# Altium footprint library Symbols.PcbLib: 12 footprints
Each footprint in its own frame and in the unit in brackets; x right, y up, seen from the top. Pads: shape width x height; smd on the part's side, far side on the other; paste and mask are expansions set on the pad; w line width, h text height; cw(c..) or ccw(c..) is an arc to the next point about the centre after c.
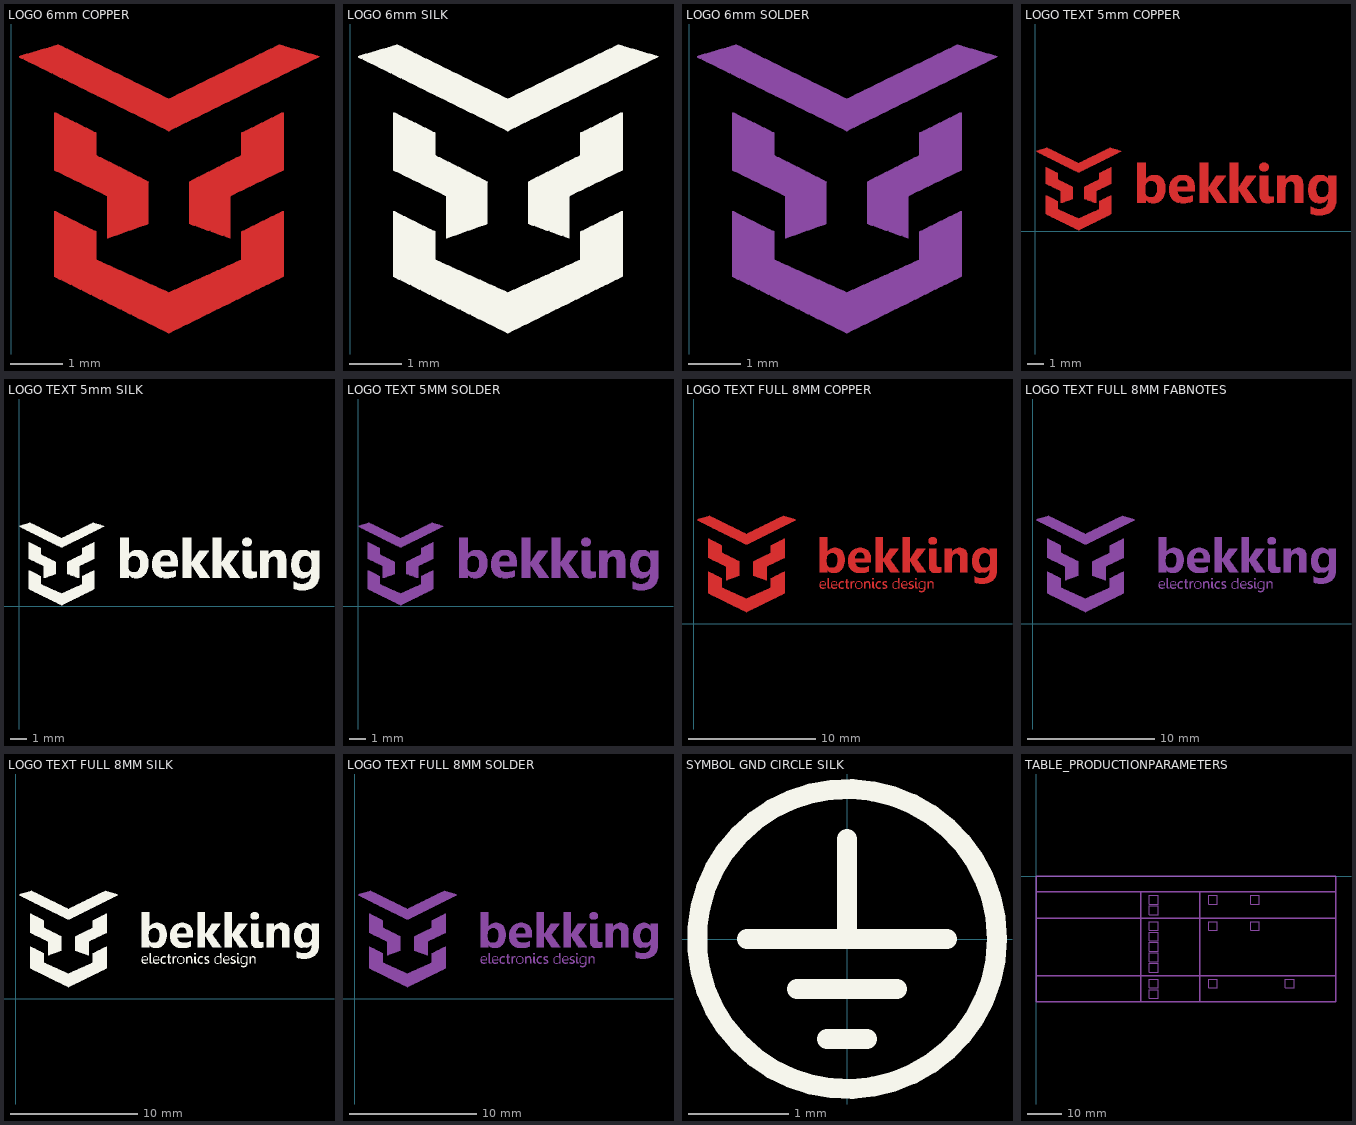
[diagram p0: the footprints below, top view; thin cyan lines are the x and y axes]

## LOGO 6mm COPPER [mm] "Small logo 5mm copper"
Top Layer:
  drawing of 4 lines, arcs and shapes, not listed

## LOGO 6mm SILK [mm] "Small logo 5mm keepout mask"
Top Overlay:
  drawing of 4 lines, arcs and shapes, not listed

## LOGO 6mm SOLDER [mm] "Small logo 5mm keepout mask"
Top Solder:
  drawing of 4 lines, arcs and shapes, not listed

## LOGO TEXT 5mm COPPER [mm]
Top Layer:
  drawing of 12 lines, arcs and shapes, not listed

## LOGO TEXT 5mm SILK [mm]
Top Overlay:
  drawing of 12 lines, arcs and shapes, not listed

## LOGO TEXT 5MM SOLDER [mm]
Top Solder:
  drawing of 12 lines, arcs and shapes, not listed

## LOGO TEXT FULL 8MM COPPER [mm]
Top Layer:
  drawing of 33 lines, arcs and shapes, not listed

## LOGO TEXT FULL 8MM FABNOTES [mm]
1. Fabnotes:
  drawing of 33 lines, arcs and shapes, not listed

## LOGO TEXT FULL 8MM SILK [mm]
Top Overlay:
  drawing of 33 lines, arcs and shapes, not listed

## LOGO TEXT FULL 8MM SOLDER [mm]
Top Solder:
  drawing of 33 lines, arcs and shapes, not listed

## SYMBOL GND CIRCLE SILK [mm] "Ground symbol in a circle, 3mm"
Top Overlay:
  circle w0.2: c0,0 r1.503
  lines w0.2: -1,0 1,0 ; -0.5,-0.5 0.5,-0.5 ; -0.2,-1 0.2,-1 ; 0,0 0,1

## TABLE_PRODUCTIONPARAMETERS [mm] "Production paramter table"
1. Fabnotes:
  lines w0.2: 32.5,-35 32.5,-32.5 35,-32.5 35,-35 32.5,-35 ; 32.5,-32 32.5,-29.5 35,-29.5 35,-32 32.5,-32 ; 32.5,-27.5 32.5,-25 35,-25 35,-27.5 32.5,-27.5 ; 32.5,-24.5 32.5,-22 35,-22 35,-24.5 32.5,-24.5 ; 32.5,-21.5 32.5,-19 35,-19 35,-21.5 32.5,-21.5 ; 32.5,-18.5 32.5,-16 35,-16 35,-18.5 32.5,-18.5 ; 32.5,-15.5 32.5,-13 35,-13 35,-15.5 32.5,-15.5 ; 32.5,-11 32.5,-8.5 35,-8.5 35,-11 32.5,-11 ; 32.5,-8 35,-8 35,-5.5 32.5,-5.5 32.5,-8 ; 49.5,-32 49.5,-29.5 52,-29.5 52,-32 49.5,-32 ; 49.5,-15.5 49.5,-13 52,-13 52,-15.5 49.5,-15.5 ; 49.5,-8 49.5,-5.5 52,-5.5 52,-8 49.5,-8 ; 61.5,-15.5 61.5,-13 64,-13 64,-15.5 61.5,-15.5 ; 61.5,-8 61.5,-5.5 64,-5.5 64,-8 61.5,-8 ; 71.5,-32 71.5,-29.5 74,-29.5 74,-32 71.5,-32
  lines w0.4: 0,-28.5 86,-28.5 ; 0,-12 86,-12 ; 30,-36 30,-4.5 ; 47,-36 47,-4.5 ; 86,-4.5 0,-4.5 ; 0,-4.5 0,-36 86,-36 86,-11.5 86,0 0,0 0,-4.5
  text "Soldermask:" at 2,-15 h1.5
  text "Copper finish:" at 2,-31.5 h1.5
  text "Silkscreen:" at 2,-7.5 h1.5
  text "Production parameters" at 2,-3 h2
  text "WHITE" at 36,-7.5 h1.5
  text "TOP" at 53,-7.5 h1.5
  text "BOTTOM" at 65,-7.5 h1.5
  text "BLACK" at 36,-10.5 h1.5
  text "BLUE" at 36,-18 h1.5
  text "BOTTOM" at 65,-15 h1.5
  text "TOP" at 53,-15 h1.5
  text "GREEN" at 36,-15 h1.5
  text "RED" at 36,-21 h1.5
  text "BLACK" at 36,-24 h1.5
  text "WHITE" at 36,-27 h1.5
  text "ENIG" at 36,-34.5 h1.5
  text "HASL" at 36,-31.5 h1.5
  text "Pb FREE" at 53,-31.5 h1.5
  text "LEADED" at 75,-31.5 h1.5